# Altium schematic symbol library LP8868.Schlib: 1 symbol
Pins are listed as number, name and electrical type; pins without a type are passive.

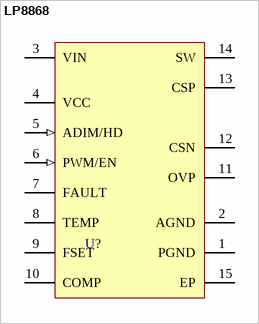
[diagram p0: symbol LP8868]

## LP8868
designator U?
5.2A 65V LED backlight driver
pins: 1 PGND (power), 2 AGND (power), 3 VIN (power), 4 VCC (power), 5 ADIM/HD (in), 6 PWM/EN (in), 7 FAULT (oc), 8 TEMP, 9 FSET, 10 COMP, 11 OVP, 12 CSN, 13 CSP, 14 SW (power), 15 EP (power)